# EAGLE library part SIM300D (library X893)
SIM300DZ
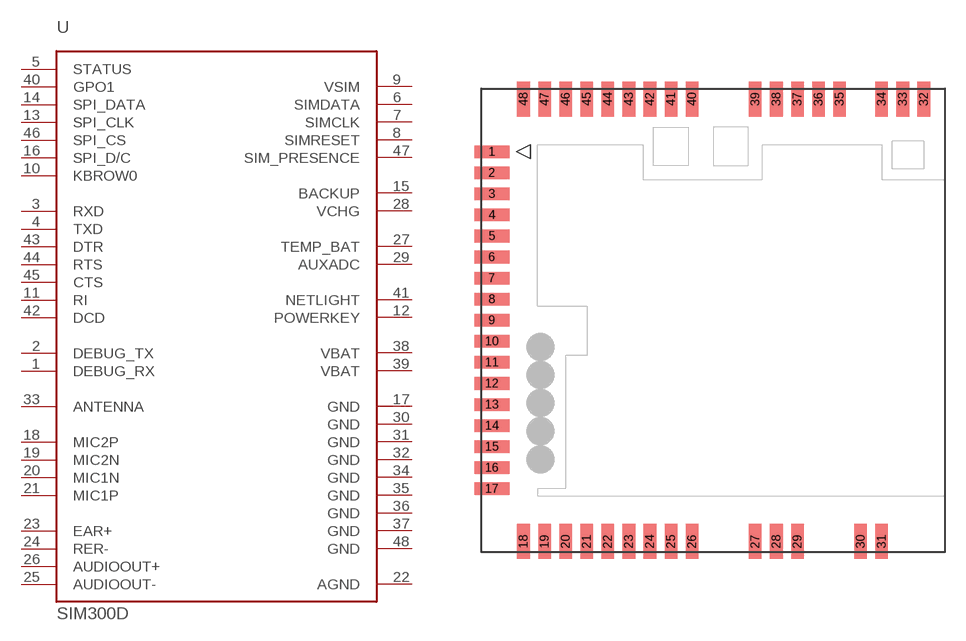
[diagram p0: symbol with the pads of SIM300D; footprint SIM300D]

Designator prefix -

## SIM300D  [SIM300D]
1  DEBUG_RX  in
2  DEBUG_TX  out
3  RXD  in
4  TXD  out
5  STATUS  out
6  SIMDATA
7  SIMCLK  out
8  SIMRESET  out
9  VSIM
10  KBROW0
11  RI
12  POWERKEY  in
13  SPI_CLK
14  SPI_DATA
15  BACKUP
16  SPI_D/C
17  GND  pwr
18  MIC2P  pas
19  MIC2N  pas
20  MIC1N  pas
21  MIC1P  pas
22  AGND
23  EAR+  pas
24  RER-  pas
25  AUDIOOUT-  pas
26  AUDIOOUT+  pas
27  TEMP_BAT  pas
28  VCHG
29  AUXADC
30  GND  pwr
31  GND  pwr
32  GND  pwr
33  ANTENNA  pas
34  GND  pwr
35  GND  pwr
36  GND  pwr
37  GND  pwr
38  VBAT
39  VBAT
40  GPO1
41  NETLIGHT  out
42  DCD
43  DTR
44  RTS
45  CTS
46  SPI_CS
47  SIM_PRESENCE  in
48  GND  pwr

## Footprint SIM300D (pad centres in mm)
smd 2.5 x 0.9: 1 -15.75,12; 2 -15.75,10.5; 3 -15.75,9; 4 -15.75,7.5; 5 -15.75,6; 6 -15.75,4.5; 7 -15.75,3; 8 -15.75,1.5; 9 -15.75,0; 10 -15.75,-1.5; 11 -15.75,-3; 12 -15.75,-4.5; 13 -15.75,-6; 14 -15.75,-7.5; 15 -15.75,-9; 16 -15.75,-10.5; 17 -15.75,-12
smd 0.9 x 2.5: 18 -13.5,-15.75; 19 -12,-15.75; 20 -10.5,-15.75; 21 -9,-15.75; 22 -7.5,-15.75; 23 -6,-15.75; 24 -4.5,-15.75; 25 -3,-15.75; 26 -1.5,-15.75; 27 3,-15.75; 28 4.5,-15.75; 29 6,-15.75; 30 10.5,-15.75; 31 12,-15.75; 32 15,15.75; 33 13.5,15.75; 34 12,15.75; 35 9,15.75; 36 7.5,15.75; 37 6,15.75; 38 4.5,15.75; 39 3,15.75; 40 -1.5,15.75; 41 -3,15.75; 42 -4.5,15.75; 43 -6,15.75; 44 -7.5,15.75; 45 -9,15.75; 46 -10.5,15.75; 47 -12,15.75; 48 -13.5,15.75